# EAGLE library part NODEMCU32S (library nodemcu32s)
ESPRESSIF NodeMCU-32S develop board Main chip: ESP-WROOM-32s Reference: View PDF documentation <https://docs.ai-thinker.com/_media/esp32/docs/nodemcu-32s_product_specification.pdf>
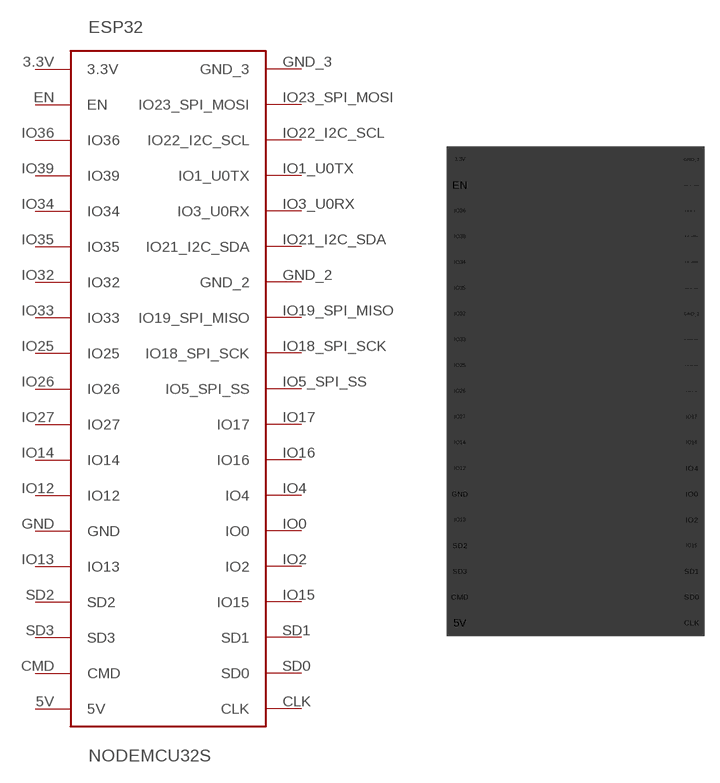
[diagram p0: symbol with the pads of NODEMCU32S; footprint NODEMCU32S]

Designator prefix ESP32

## NODEMCU32SBOARD  [NODEMCU32S]
3.3V  3.3V  pwr
5V  5V  pwr
CLK  CLK  nc
CMD  CMD  nc
EN  EN  nc
GND  GND  pas
GND_2  GND_2  sup
GND_3  GND_3  sup
IO0  IO0
IO1_U0TX  IO1_U0TX
IO2  IO2
IO3_U0RX  IO3_U0RX
IO4  IO4
IO5_SPI_SS  IO5_SPI_SS
IO12  IO12
IO13  IO13
IO14  IO14
IO15  IO15
IO16  IO16
IO17  IO17
IO18_SPI_SCK  IO18_SPI_SCK
IO19_SPI_MISO  IO19_SPI_MISO
IO21_I2C_SDA  IO21_I2C_SDA
IO22_I2C_SCL  IO22_I2C_SCL
IO23_SPI_MOSI  IO23_SPI_MOSI
IO25  IO25
IO26  IO26
IO27  IO27
IO32  IO32
IO33  IO33
IO34  IO34  in
IO35  IO35
IO36  IO36  in
IO39  IO39  in
SD0  SD0  nc
SD1  SD1  nc
SD2  SD2  nc
SD3  SD3  nc

## Footprint NODEMCU32S (pad centres in mm)
drill 0.65: 3.3V 1.27,46.99; 5V 1.27,1.27; CLK 24.13,1.27; CMD 1.27,3.81; EN 1.27,44.45; GND 1.27,13.97; GND_2 24.13,31.75; GND_3 24.13,46.99; IO0 24.13,13.97; IO1_U0TX 24.13,39.37; IO2 24.13,11.43; IO3_U0RX 24.13,36.83; IO4 24.13,16.51; IO5_SPI_SS 24.13,24.13; IO12 1.27,16.51; IO13 1.27,11.43; IO14 1.27,19.05; IO15 24.13,8.89; IO16 24.13,19.05; IO17 24.13,21.59; IO18_SPI_SCK 24.13,26.67; IO19_SPI_MISO 24.13,29.21; IO21_I2C_SDA 24.13,34.29; IO22_I2C_SCL 24.13,41.91; IO23_SPI_MOSI 24.13,44.45; IO25 1.27,26.67; IO26 1.27,24.13; IO27 1.27,21.59; IO32 1.27,31.75; IO33 1.27,29.21; IO34 1.27,36.83; IO35 1.27,34.29; IO36 1.27,41.91; IO39 1.27,39.37; SD0 24.13,3.81; SD1 24.13,6.35; SD2 1.27,8.89; SD3 1.27,6.35